# EAGLE library part INA199A2RSWT (library probox-parts)
Voltage Output, High or Low Side Measurement, Bi-Directional Zerø-Drift Series CURRENT SHUNT MONITOR
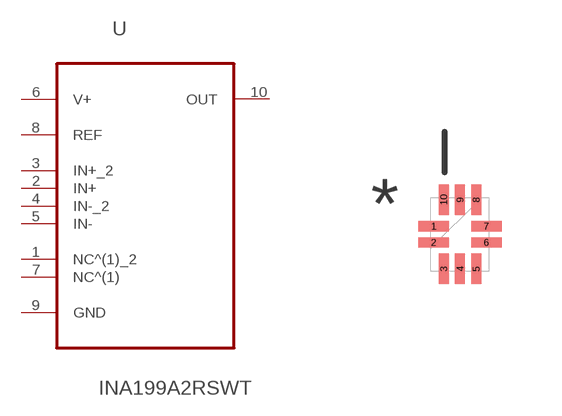
[diagram p3: symbol with the pads of QFN40P140X180X55-10N; footprint QFN40P140X180X55-10N]

Designator prefix U

## INA199A2RSWT (MPN: INA199A2RSWT; OC_FARNELL: 1815789; OC_NEWARK: 74R0562; PACKAGE: UQFN-10; SUPPLIER: Texas Instrument)  [QFN40P140X180X55-10N]
1  NC^(1)_2  nc
2  IN+  in
3  IN+_2  in
4  IN-_2  in
5  IN-  in
6  V+  pwr
7  NC^(1)  nc
8  REF  in
9  GND  pas
10  OUT  out

## Footprint QFN40P140X180X55-10N (pad centres in mm)
smd 0.762 x 0.254: 1 -0.66,0.203; 2 -0.66,-0.203; 6 0.66,-0.203; 7 0.66,0.203
smd 0.254 x 0.762: 3 -0.406,-0.864; 4 0,-0.864; 5 0.406,-0.864; 8 0.406,0.864; 9 0,0.864; 10 -0.406,0.864